# EAGLE library part SN74LVC2GU04D (library sn74lvc)
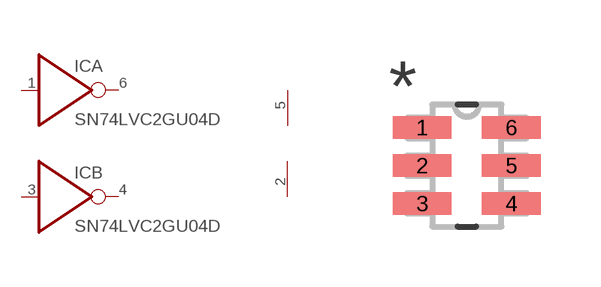
[diagram p1: symbol with the pads of DBV6; footprint DBV6]

Designator prefix IC; gates A=SN74LVC2GU04 B=SN74LVC2GU04 C=SUPPLY

## SN74LVC2GU04D  [DBV6]
1  A:A  out
2  C:GND
3  B:A  out
4  B:Y  out
5  C:5V
6  A:Y  out

## Footprint DBV6 (pad centres in mm)
smd 1.473 x 0.559: 1 -1.118,0.95; 2 -1.118,0; 3 -1.118,-0.95; 4 1.118,-0.95; 5 1.118,0; 6 1.118,0.95